# Altium footprint library SS14.PcbLib: 1 footprints
Each footprint in its own frame and in the unit in brackets; x right, y up, seen from the top. Pads: shape width x height; smd on the part's side, far side on the other; paste and mask are expansions set on the pad; w line width, h text height; cw(c..) or ccw(c..) is an arc to the next point about the centre after c.
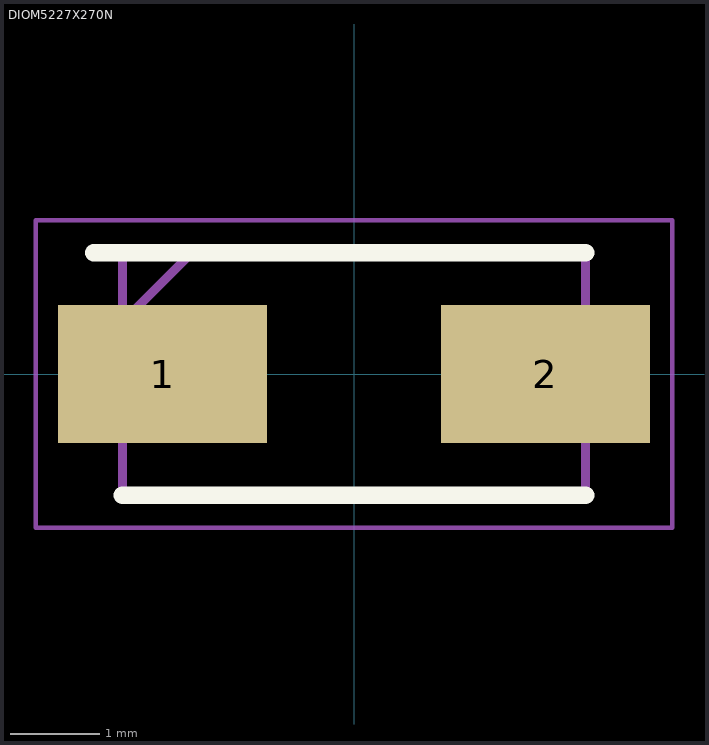
[diagram p0: the footprint, top view; thin cyan lines are the x and y axes]

## DIOM5227X270N [mm]
pads (2):
  rect 2.35x1.55 smd: 1(-2.15,0) 2(2.15,0)
Top Overlay:
  lines w0.2: -2.925,1.362 2.6,1.362 ; -2.6,-1.362 2.6,-1.362
Mechanical 15:
  lines w0.1: -2.6,0.588 -1.825,1.362 ; -2.6,-1.362 2.6,-1.362 2.6,1.362 -2.6,1.362 -2.6,-1.362
Mechanical 20:
  lines w0.05: -3.575,-1.725 3.575,-1.725 3.575,1.725 -3.575,1.725 -3.575,-1.725